# Altium footprint library PCB_Connector_Pcb.PcbLib: 3 footprints
Each footprint in its own frame and in the unit in brackets; x right, y up, seen from the top. Pads: shape width x height; smd on the part's side, far side on the other; paste and mask are expansions set on the pad; w line width, h text height; cw(c..) or ccw(c..) is an arc to the next point about the centre after c.
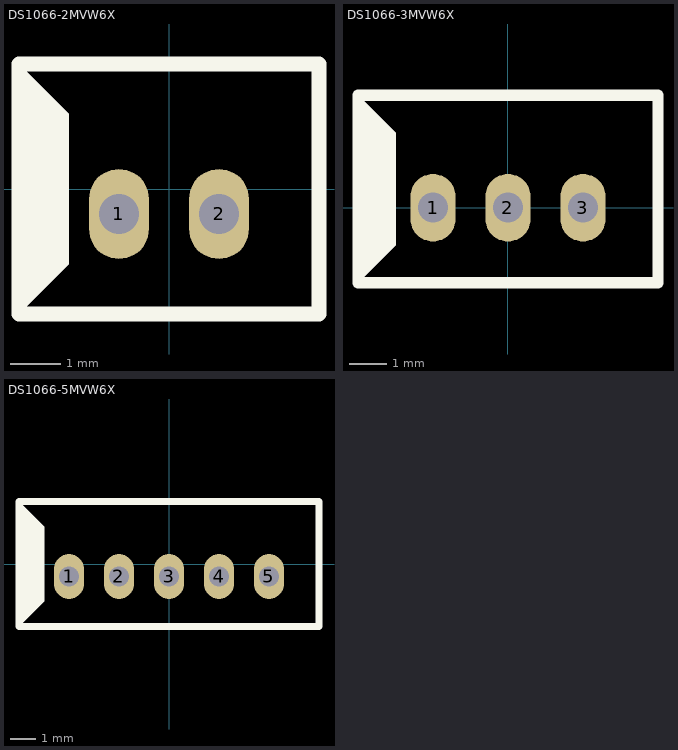
[diagram p0: the footprints below, top view; thin cyan lines are the x and y axes]

## DS1066-2MVW6X [mm] "2mm pitch"
pads (2):
  oval 1.2x1.8 hole 0.8: 1(-1,-0.5) 2(1,-0.5)
Top Overlay:
  region: -3,2.5 -2,1.5 -2,-1.5 -3,-2.5
  lines w0.3: -3,-2.5 -3,0 -3,2.5 3,2.5 3,-2.5 -3,-2.5
3D body "DS1066-2P.step": height 6.01, standoff -3.29, extent -2.95,-2.25 2.95,2.25

## DS1066-3MVW6X [mm] "2mm pitch"
pads (3):
  oval 1.2x1.8 hole 0.8: 1(-2,0) 2(0,0) 3(2,0)
Top Overlay:
  region: -4,3 -3,2 -3,-1 -4,-2
  lines w0.3: -4,-2 -4,0.5 -4,3 4,3 4,-2 -4,-2
3D body "DS1066-3P.step": height 6.01, standoff -3.29, extent -3.95,-1.75 3.95,2.75

## DS1066-5MVW6X [mm] "2mm pitch"
pads (5):
  oval 1.2x1.8 hole 0.8: 1(-4,-0.5) 2(-2,-0.5) 3(0,-0.5) 4(2,-0.5) 5(4,-0.5)
Top Overlay:
  region: -6,2.5 -5,1.5 -5,-1.5 -6,-2.5
  lines w0.3: -6,-2.5 -6,0 -6,2.5 6,2.5 6,-2.5 -6,-2.5
3D body "DS1066-5P.step": height 6.01, standoff -3.29, extent -5.95,-2.25 5.95,2.25